# EAGLE library part DIL8 (library Sam_transistors_ICS)
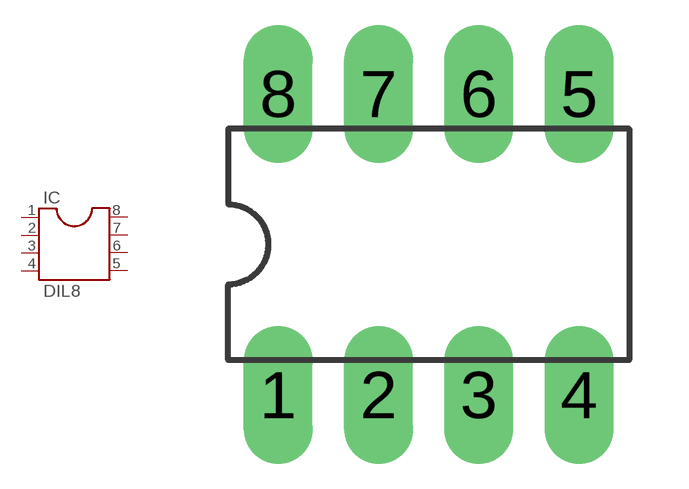
[diagram p0: symbol with the pads of DIL08; footprint DIL08]

Designator prefix IC

## DIL8  [DIL08]
1  1  pas
2  2  pas
3  3  pas
4  4  pas
5  5  pas
6  6  pas
7  7  pas
8  8  pas

## Footprint DIL08 (pad centres in mm)
Dual In Line Package
drill 1 pad 1.75 long: 1 -3.81,-3.81; 2 -1.27,-3.81; 3 1.27,-3.81; 4 3.81,-3.81; 5 3.81,3.81; 6 1.27,3.81; 7 -1.27,3.81; 8 -3.81,3.81